# Altium footprint library QFP_Rect_100P_Side_L.PcbLib: 3 footprints
Each footprint in its own frame and in the unit in brackets; x right, y up, seen from the top. Pads: shape width x height; smd on the part's side, far side on the other; paste and mask are expansions set on the pad; w line width, h text height; cw(c..) or ccw(c..) is an arc to the next point about the centre after c.
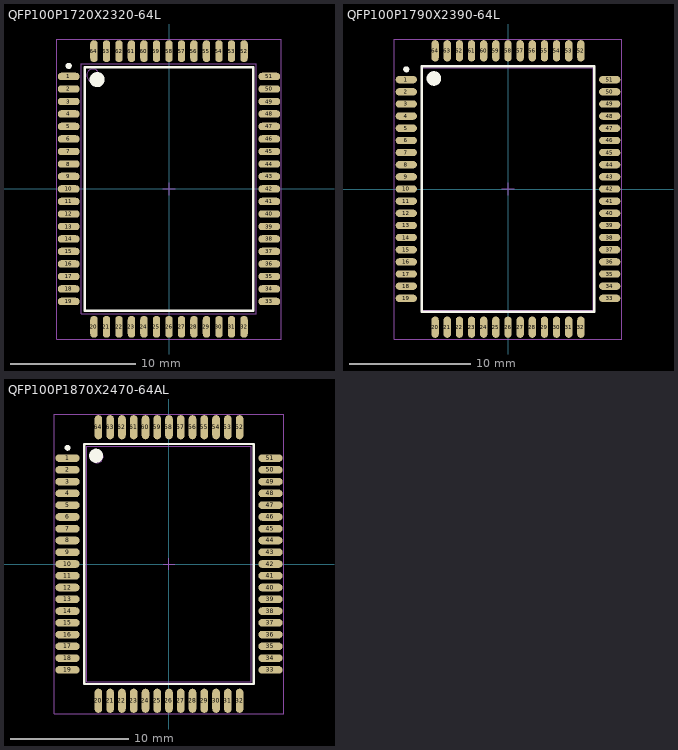
[diagram p0: the footprints below, top view; thin cyan lines are the x and y axes]

## QFP100P1720X2320-64L [mm]
pads (64):
  oval 1.75x0.6 smd: 1(-8.025,9) 2(-8.025,8) 3(-8.025,7) 4(-8.025,6) 5(-8.025,5) 6(-8.025,4) 7(-8.025,3) 8(-8.025,2) 9(-8.025,1) 10(-8.025,0) 11(-8.025,-1) 12(-8.025,-2) 13(-8.025,-3) 14(-8.025,-4) 15(-8.025,-5) 16(-8.025,-6) 17(-8.025,-7) 18(-8.025,-8) 19(-8.025,-9) 33(8.025,-9) 34(8.025,-8) 35(8.025,-7) 36(8.025,-6) 37(8.025,-5) 38(8.025,-4) 39(8.025,-3) 40(8.025,-2) 41(8.025,-1) 42(8.025,0) 43(8.025,1) 44(8.025,2) 45(8.025,3) 46(8.025,4) 47(8.025,5) 48(8.025,6) 49(8.025,7) 50(8.025,8) 51(8.025,9)
  oval 0.6x1.75 smd: 20(-6,-11.025) 21(-5,-11.025) 22(-4,-11.025) 23(-3,-11.025) 24(-2,-11.025) 25(-1,-11.025) 26(0,-11.025) 27(1,-11.025) 28(2,-11.025) 29(3,-11.025) 30(4,-11.025) 31(5,-11.025) 32(6,-11.025) 52(6,11.025) 53(5,11.025) 54(4,11.025) 55(3,11.025) 56(2,11.025) 57(1,11.025) 58(0,11.025) 59(-1,11.025) 60(-2,11.025) 61(-3,11.025) 62(-4,11.025) 63(-5,11.025) 64(-6,11.025)
Top Overlay:
  circle w0.25: c-8.025,9.85 r0.125
  circle w0.6: c-5.75,8.75 r0.3
  lines w0.2: -6.75,-9.75 -6.75,9.75 6.75,9.75 6.75,-9.75 -6.75,-9.75
Mechanical 13:
  circle w0.1: c-6.1,9.1 r0.5
  lines w0.1: -7,-10 -7,10 7,10 7,-10 -7,-10
Mechanical 15:
  lines w0.1: -0.5,0 0.5,0 ; 0,-0.5 0,0.5 ; -9,-12 -9,12 9,12 9,-12 -9,-12
3D body: height 0, standoff 0, extent -7,-10 7,10

## QFP100P1790X2390-64L [mm]
pads (64):
  oval 1.75x0.6 smd: 1(-8.375,9) 2(-8.375,8) 3(-8.375,7) 4(-8.375,6) 5(-8.375,5) 6(-8.375,4) 7(-8.375,3) 8(-8.375,2) 9(-8.375,1) 10(-8.375,0) 11(-8.375,-1) 12(-8.375,-2) 13(-8.375,-3) 14(-8.375,-4) 15(-8.375,-5) 16(-8.375,-6) 17(-8.375,-7) 18(-8.375,-8) 19(-8.375,-9) 33(8.375,-9) 34(8.375,-8) 35(8.375,-7) 36(8.375,-6) 37(8.375,-5) 38(8.375,-4) 39(8.375,-3) 40(8.375,-2) 41(8.375,-1) 42(8.375,0) 43(8.375,1) 44(8.375,2) 45(8.375,3) 46(8.375,4) 47(8.375,5) 48(8.375,6) 49(8.375,7) 50(8.375,8) 51(8.375,9)
  oval 0.6x1.75 smd: 20(-6,-11.375) 21(-5,-11.375) 22(-4,-11.375) 23(-3,-11.375) 24(-2,-11.375) 25(-1,-11.375) 26(0,-11.375) 27(1,-11.375) 28(2,-11.375) 29(3,-11.375) 30(4,-11.375) 31(5,-11.375) 32(6,-11.375) 52(6,11.375) 53(5,11.375) 54(4,11.375) 55(3,11.375) 56(2,11.375) 57(1,11.375) 58(0,11.375) 59(-1,11.375) 60(-2,11.375) 61(-3,11.375) 62(-4,11.375) 63(-5,11.375) 64(-6,11.375)
Top Overlay:
  circle w0.6: c-6.1,9.1 r0.3
  circle w0.25: c-8.375,9.85 r0.125
  lines w0.2: -7.1,-10.1 7.1,-10.1 7.1,10.1 -7.1,10.1 -7.1,-10.1
Mechanical 13:
  circle w0.1: c-6.1,9.1 r0.5
  lines w0.1: -7,-10 7,-10 7,10 -7,10 -7,-10
Mechanical 15:
  lines w0.1: -0.5,0 0.5,0 ; 0,-0.5 0,0.5 ; -9.35,-12.35 9.35,-12.35 9.35,12.35 -9.35,12.35 -9.35,-12.35
3D body: height 0, standoff 0, extent -7,-10 7,10

## QFP100P1870X2470-64AL [mm] "QFP, 64-Leads, Body 20x14mm, Pitch 1mm, IPC High Density"
height 2.3
pads (64):
  oval 2.05x0.65 smd: 1(-8.625,9) 2(-8.625,8) 3(-8.625,7) 4(-8.625,6) 5(-8.625,5) 6(-8.625,4) 7(-8.625,3) 8(-8.625,2) 9(-8.625,1) 10(-8.625,0) 11(-8.625,-1) 12(-8.625,-2) 13(-8.625,-3) 14(-8.625,-4) 15(-8.625,-5) 16(-8.625,-6) 17(-8.625,-7) 18(-8.625,-8) 19(-8.625,-9) 33(8.625,-9) 34(8.625,-8) 35(8.625,-7) 36(8.625,-6) 37(8.625,-5) 38(8.625,-4) 39(8.625,-3) 40(8.625,-2) 41(8.625,-1) 42(8.625,0) 43(8.625,1) 44(8.625,2) 45(8.625,3) 46(8.625,4) 47(8.625,5) 48(8.625,6) 49(8.625,7) 50(8.625,8) 51(8.625,9)
  oval 0.65x2.05 smd: 20(-6,-11.625) 21(-5,-11.625) 22(-4,-11.625) 23(-3,-11.625) 24(-2,-11.625) 25(-1,-11.625) 26(0,-11.625) 27(1,-11.625) 28(2,-11.625) 29(3,-11.625) 30(4,-11.625) 31(5,-11.625) 32(6,-11.625) 52(6,11.625) 53(5,11.625) 54(4,11.625) 55(3,11.625) 56(2,11.625) 57(1,11.625) 58(0,11.625) 59(-1,11.625) 60(-2,11.625) 61(-3,11.625) 62(-4,11.625) 63(-5,11.625) 64(-6,11.625)
Top Overlay:
  circle w0.6: c-6.2,9.2 r0.3
  circle w0.25: c-8.625,9.875 r0.125
  lines w0.2: -7.2,-10.2 7.2,-10.2 7.2,10.2 -7.2,10.2 -7.2,-10.2
Mechanical 13:
  circle w0.1: c-6.1,9.1 r0.5
  lines w0.1: -7,-10 7,-10 7,10 -7,10 -7,-10
Mechanical 15:
  lines w0.1: -0.5,0 0.5,0 ; 0,-0.5 0,0.5 ; -9.75,-12.75 9.75,-12.75 9.75,12.75 -9.75,12.75 -9.75,-12.75
3D body: height 2.3, standoff 0, extent -7,-10 7,10